# EAGLE library part 1-292161-2 (library SamacSys_Parts)
Headers & Wire Housings HDR PIN 1X12C VRT Source: Datasheet <https://www.te.com/commerce/DocumentDelivery/DDEController?Action=srchrtrv&DocNm=292161&DocType=Customer Drawing&DocLang=English>
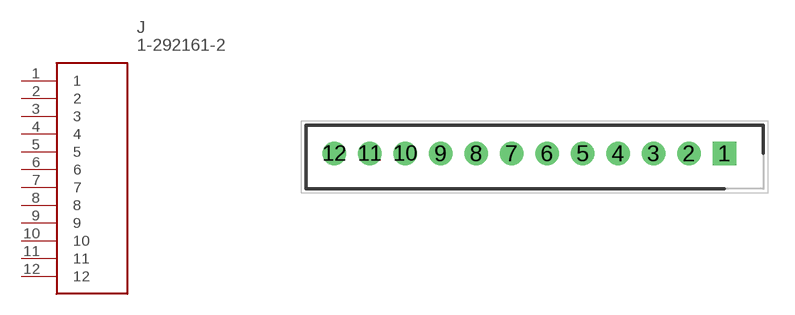
[diagram p112: symbol with the pads of SHDR12W60P0X200_1X12_2580X360X; footprint SHDR12W60P0X200_1X12_2580X360X]

Designator prefix J

## 1-292161-2 (DESCRIPTION: Headers & Wire Housings HDR PIN 1X12C VRT; HEIGHT: 6.8mm; MANUFACTURER_NAME: TE Connectivity; MANUFACTURER_PART_NUMBER: 1-292161-2; MOUSER_PART_NUMBER: 571-1-292161-2; MOUSER_PRICE-STOCK: https://www.mouser.co.uk/ProductDetail/TE-Connectivity-Alcoswitch/1-292161-2?qs=AplfTeSvkkAbKJTL8ORUQg%3D%3D)  [SHDR12W60P0X200_1X12_2580X360X]
1  1
2  2
3  3
4  4
5  5
6  6
7  7
8  8
9  9
10  10
11  11
12  12

## Footprint SHDR12W60P0X200_1X12_2580X360X (pad centres in mm)
1-292161-2
drill 0.8 pad 1.2 square: 1 0,0
drill 0.8 pad 1.2: 2 -2,0; 3 -4,0; 4 -6,0; 5 -8,0; 6 -10,0; 7 -12,0; 8 -14,0; 9 -16,0; 10 -18,0; 11 -20,0; 12 -22,0